# Altium schematic symbol library Optoisolator2.Schlib: 1 symbol
Pins are listed as number, name and electrical type; pins without a type are passive.

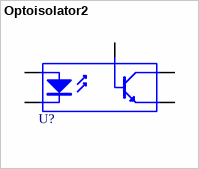
[diagram p0: symbol Optoisolator2]

## Optoisolator2
designator U?
5 Pin Mini Flat Pack Optocoupler
pins: 1 A "Anode", 3 K "Cathode", 4 E "Emitter", 5 C "Collector", 6 B "Base"